# Altium footprint library BOURNS_3296W.PcbLib: 1 footprints
Each footprint in its own frame and in the unit in brackets; x right, y up, seen from the top. Pads: shape width x height; smd on the part's side, far side on the other; paste and mask are expansions set on the pad; w line width, h text height; cw(c..) or ccw(c..) is an arc to the next point about the centre after c.
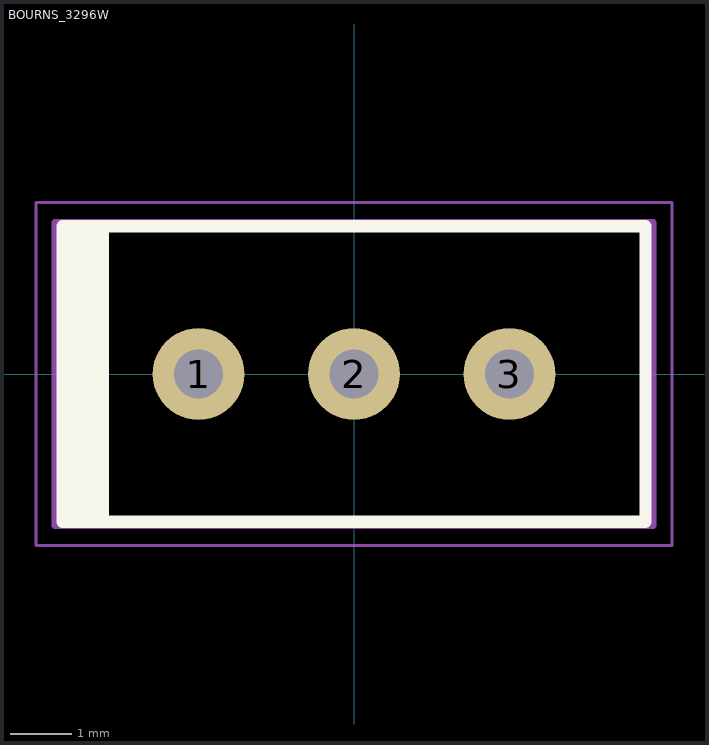
[diagram p0: the footprint, top view; thin cyan lines are the x and y axes]

## BOURNS_3296W [mm]
height 12.05
pads (3):
  round 1.5 hole 0.8 mask+0.05: 1(-2.54,0) 2(0,0) 3(2.54,0)
Top Overlay:
  rectangle: -4.765,-2.415 -4,2.415
  lines w0.2: -4.765,-2.415 4.765,-2.415 4.765,2.415 -4.765,2.415 -4.765,-2.415
Mechanical 13:
  lines w0.1: -4.89,-2.48 4.89,-2.48 4.89,2.48 -4.89,2.48 -4.89,-2.48
Mechanical 15:
  lines w0.05: -5.2,-2.8 5.2,-2.8 5.2,2.8 -5.2,2.8 -5.2,-2.8
  lines w0.1: -0.5,0 0.5,0 ; 0,-0.5 0,0.5
3D body "Bourns-3296W.step": height 11, standoff -4.15, extent -4.75,-2.425 4.75,2.425